# Altium schematic symbol library ADG734BRU.SchLib: 1 symbol
Pins are listed as number, name and electrical type; pins without a type are passive.

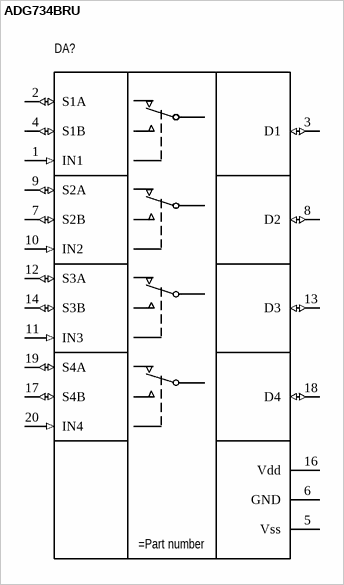
[diagram p0: symbol ADG734BRU]

## ADG734BRU
designator DA?
CMOS, 2.5 Ohm Low Voltage,Triple/Quad SPDT Switches
pins: 1 IN1 (in), 2 S1A (io), 3 D1 (io), 4 S1B (io), 5 Vss (power), 6 GND (power), 7 S2B (io), 8 D2 (io), 9 S2A (io), 10 IN2 (in), 11 IN3 (in), 12 S3A (io), 13 D3 (io), 14 S3B (io), 16 Vdd (power), 17 S4B (io), 18 D4 (io), 19 S4A (io), 20 IN4 (in)